# EAGLE library part 68611414422 (library Eagle_FPC_CONNECTOR_AND_FFC_CAB (rev18c))
WR-FPC 1.00mm SMT ZIF Horizontal Bottom Contact, 14 Pins=>Code : Con_FPC_ZIF_1.00_68611414422 <http://katalog.we-online.de/media/images/eican/Con_FPC_ZIF_1.00_6861xx14422_pf2.jpg> Details see: http://katalog.we-online.de/en/em/686_1xx_144_22 Created 2014-07-09, Karrer Zheng 2014 (C) Würth Elektronik
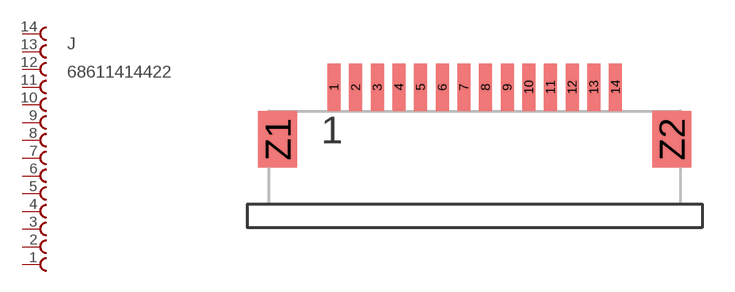
[diagram p7: symbol with the pads of 68611414422; footprint 68611414422]

Designator prefix J

## 68611414422  [68611414422]
1  14  pas
2  13  pas
3  12  pas
4  11  pas
5  10  pas
6  9  pas
7  8  pas
8  7  pas
9  6  pas
10  5  pas
11  4  pas
12  3  pas
13  2  pas
14  1  pas

## Footprint 68611414422 (pad centres in mm)
WR-FPC 1.00mm SMT ZIF Horizontal Bottom Contact, 14 Pins
smd 0.6 x 2.2: 1 -6.5,2.4; 2 -5.5,2.4; 3 -4.5,2.4; 4 -3.5,2.4; 5 -2.5,2.4; 6 -1.5,2.4; 7 -0.5,2.4; 8 0.5,2.4; 9 1.5,2.4; 10 2.5,2.4; 11 3.5,2.4; 12 4.5,2.4; 13 5.5,2.4; 14 6.5,2.4
smd 1.8 x 2.6: Z1 -9.1,0; Z2 9.1,0